# EAGLE library part DSPIC33EPXXXGP506 (library kotuku)
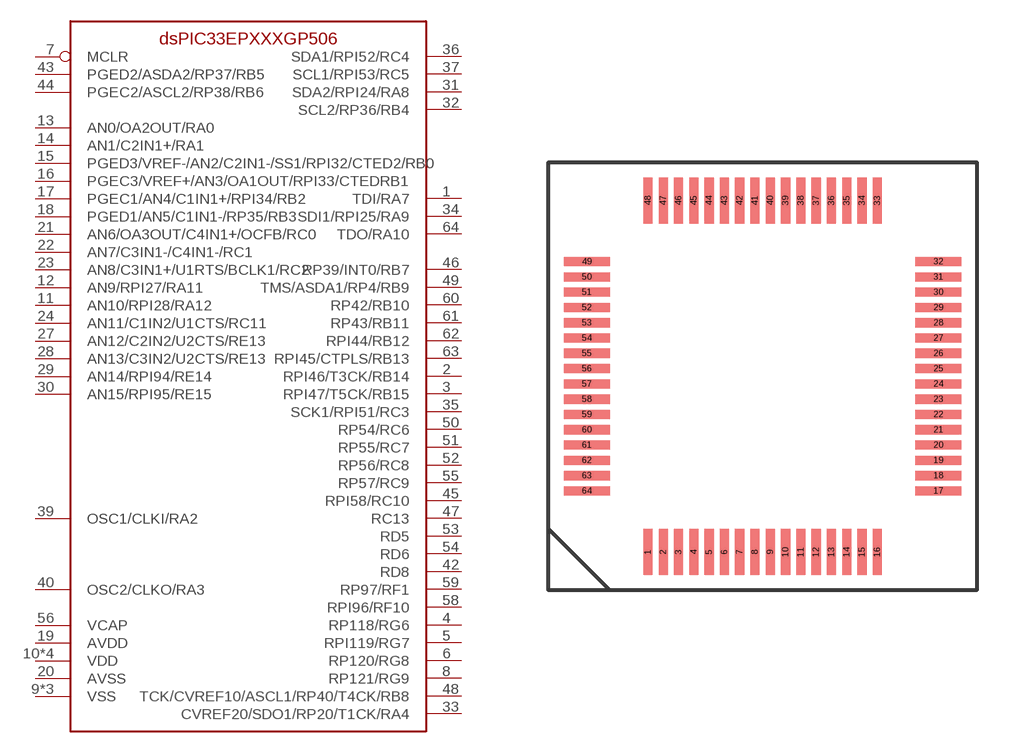
[diagram p18: symbol with the pads of TQFP64; footprint TQFP64]

Designator prefix -

## DSPIC33EPXXXGP506  [TQFP64]
1  TDI/RA7
2  RPI46/T3CK/RB14
3  RPI47/T5CK/RB15
4  RP118/RG6
5  RPI119/RG7
6  RP120/RG8
7  MCLR  in
8  RP121/RG9
9  VSS
10  VDD
11  AN10/RPI28/RA12
12  AN9/RPI27/RA11
13  AN0/OA2OUT/RA0
14  AN1/C2IN1+/RA1
15  PGED3/VREF-/AN2/C2IN1-/SS1/RPI32/CTED2/RB0
16  PGEC3/VREF+/AN3/OA1OUT/RPI33/CTEDRB1
17  PGEC1/AN4/C1IN1+/RPI34/RB2
18  PGED1/AN5/C1IN1-/RP35/RB3
19  AVDD
20  AVSS
21  AN6/OA3OUT/C4IN1+/OCFB/RC0
22  AN7/C3IN1-/C4IN1-/RC1
23  AN8/C3IN1+/U1RTS/BCLK1/RC2
24  AN11/C1IN2/U1CTS/RC11
25  VSS
26  VDD
27  AN12/C2IN2/U2CTS/RE13
28  AN13/C3IN2/U2CTS/RE13
29  AN14/RPI94/RE14
30  AN15/RPI95/RE15
31  SDA2/RPI24/RA8
32  SCL2/RP36/RB4
33  CVREF20/SDO1/RP20/T1CK/RA4
34  SDI1/RPI25/RA9
35  SCK1/RPI51/RC3
36  SDA1/RPI52/RC4
37  SCL1/RPI53/RC5
38  VDD
39  OSC1/CLKI/RA2
40  OSC2/CLKO/RA3
41  VSS
42  RD8
43  PGED2/ASDA2/RP37/RB5
44  PGEC2/ASCL2/RP38/RB6
45  RPI58/RC10
46  RP39/INT0/RB7
47  RC13
48  TCK/CVREF10/ASCL1/RP40/T4CK/RB8
49  TMS/ASDA1/RP4/RB9
50  RP54/RC6
51  RP55/RC7
52  RP56/RC8
53  RD5
54  RD6
55  RP57/RC9
56  VCAP
57  VDD
58  RPI96/RF10
59  RP97/RF1
60  RP42/RB10
61  RP43/RB11
62  RPI44/RB12
63  RPI45/CTPLS/RB13
64  TDO/RA10

## Footprint TQFP64 (pad centres in mm)
smd 0.3 x 1.5: 1 -3.98,-5.6; 2 -3.48,-5.6; 3 -2.98,-5.6; 4 -2.48,-5.6; 5 -1.98,-5.6; 6 -1.48,-5.6; 7 -0.98,-5.6; 8 -0.48,-5.6; 9 0.02,-5.6; 10 0.52,-5.6; 11 1.02,-5.6; 12 1.52,-5.6; 13 2.02,-5.6; 14 2.52,-5.6; 15 3.02,-5.6; 16 3.52,-5.6; 33 3.52,5.9; 34 3.02,5.9; 35 2.52,5.9; 36 2.02,5.9; 37 1.52,5.9; 38 1.02,5.9; 39 0.52,5.9; 40 0.02,5.9; 41 -0.48,5.9; 42 -0.98,5.9; 43 -1.48,5.9; 44 -1.98,5.9; 45 -2.48,5.9; 46 -2.98,5.9; 47 -3.48,5.9; 48 -3.98,5.9
smd 1.5 x 0.3: 17 5.52,-3.6; 18 5.52,-3.1; 19 5.52,-2.6; 20 5.52,-2.1; 21 5.52,-1.6; 22 5.52,-1.1; 23 5.52,-0.6; 24 5.52,-0.1; 25 5.52,0.4; 26 5.52,0.9; 27 5.52,1.4; 28 5.52,1.9; 29 5.52,2.4; 30 5.52,2.9; 31 5.52,3.4; 32 5.52,3.9; 49 -5.98,3.9; 50 -5.98,3.4; 51 -5.98,2.9; 52 -5.98,2.4; 53 -5.98,1.9; 54 -5.98,1.4; 55 -5.98,0.9; 56 -5.98,0.4; 57 -5.98,-0.1; 58 -5.98,-0.6; 59 -5.98,-1.1; 60 -5.98,-1.6; 61 -5.98,-2.1; 62 -5.98,-2.6; 63 -5.98,-3.1; 64 -5.98,-3.6